# EAGLE library part DAC_MCP47X6 (library JOSHUA)
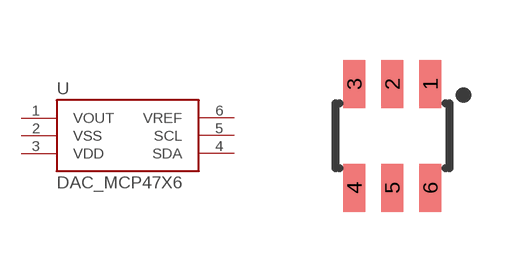
[diagram p2: symbol with the pads of SOT23-6; footprint SOT23-6]

Designator prefix -

## DAC_MCP47X6  [SOT23-6]
1  VOUT
2  VSS
3  VDD
4  SDA
5  SCL
6  VREF

## Footprint SOT23-6 (pad centres in mm)
smd 0.55 x 1.2: 1 0.95,1.3; 2 0,1.3; 3 -0.95,1.3; 4 -0.95,-1.3; 5 0,-1.3; 6 0.95,-1.3